# Altium schematic symbol library HDR_1X3.SchLib: 1 symbol
Pins are listed as number, name and electrical type; pins without a type are passive.

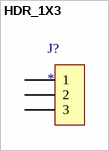
[diagram p0: symbol HDR_1X3]

## HDR_1X3
designator J?
pins: 1, 2, 3